# Altium footprint library PCBLibSynthe.PcbLib: 38 footprints (part 2 of 3)
Each footprint in its own frame and in the unit in brackets; x right, y up, seen from the top. Pads: shape width x height; smd on the part's side, far side on the other; paste and mask are expansions set on the pad; w line width, h text height; cw(c..) or ccw(c..) is an arc to the next point about the centre after c.
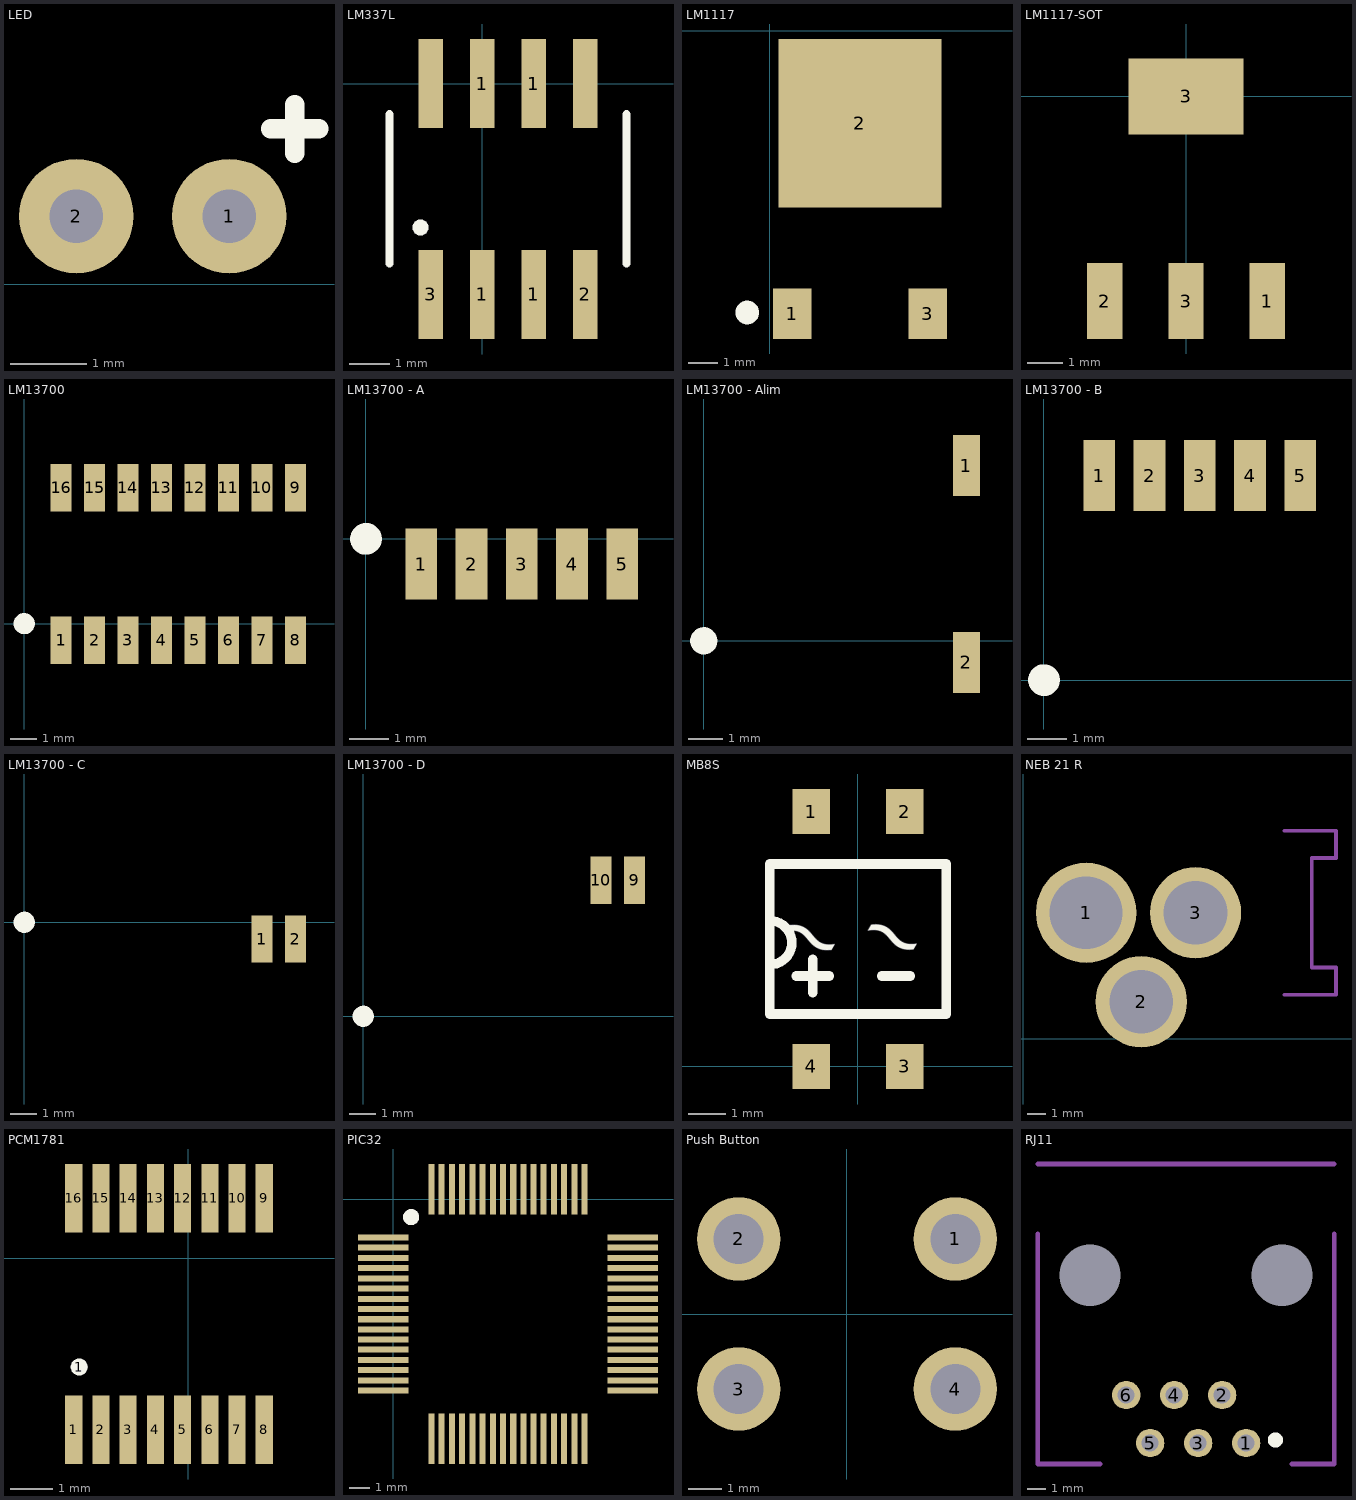
[diagram p1: the footprints below, top view; thin cyan lines are the x and y axes]

## LED [mm]
pads (2):
  round 1.5 hole 0.7: 1(3.27,0.889) 2(1.27,0.889)
Top Overlay:
  lines w0.254: 3.81,2.032 4.445,2.032 4.127,2.032 4.127,1.714 4.127,2.349

## LM337L [mm]
pads (9):
  rect 0.6x2.2 smd mask+0.1: 1(0,-5.2) 1(0,0) 1(1.27,-5.2) 1(1.27,0) 2(2.54,-5.2) 3(-1.27,-5.2) ""(-1.27,0) ""(2.54,0)
  round 0.4 on Top Overlay: ""(-1.524,-3.549)
Top Overlay:
  lines w0.2: -2.286,-4.438 -2.286,-0.755 ; 3.556,-4.438 3.556,-0.755

## LM1117 [mm] "Linear regulator"
pads (3):
  rect 1.3x1.7 smd: 1(0.764,-9.57) 3(5.334,-9.57)
  rect 5.5x5.7 smd: 2(3.049,-3.13)
Top Overlay:
  circle w0.4: c-0.762,-9.525 r0.2

## LM1117-SOT [mm]
pads (4):
  rect 1x2.15 smd: 1(2.3,-5.8) 2(-2.3,-5.8) 3(0,-5.8)
  rect 3.25x2.15 smd: 3(0,0)

## LM13700 [mm]
pads (16):
  rect 0.8x1.8 smd: 1(1.397,-0.635) 2(2.667,-0.635) 3(3.937,-0.635) 4(5.207,-0.635) 5(6.477,-0.635) 6(7.747,-0.635) 7(9.017,-0.635) 8(10.287,-0.635) 9(10.287,5.165) 10(9.017,5.165) 11(7.747,5.165) 12(6.477,5.165) 13(5.207,5.165) 14(3.937,5.165) 15(2.667,5.165) 16(1.397,5.165)
Top Overlay:
  circle w0.4: c0,0 r0.2

## LM13700 - A [mm]
pads (5):
  rect 0.8x1.8 smd: 1(1.397,-0.635) 2(2.667,-0.635) 3(3.937,-0.635) 4(5.207,-0.635) 5(6.477,-0.635)
Top Overlay:
  circle w0.4: c0,0 r0.2

## LM13700 - Alim [mm]
pads (2):
  rect 0.8x1.8 smd: 1(7.747,5.165) 2(7.747,-0.635)
Top Overlay:
  circle w0.4: c0,0 r0.2

## LM13700 - B [mm]
pads (5):
  rect 0.8x1.8 smd: 1(1.397,5.165) 2(2.667,5.165) 3(3.937,5.165) 4(5.207,5.165) 5(6.477,5.165)
Top Overlay:
  circle w0.4: c0,0 r0.2

## LM13700 - C [mm]
pads (2):
  rect 0.8x1.8 smd: 1(9.017,-0.635) 2(10.287,-0.635)
Top Overlay:
  circle w0.4: c0,0 r0.2

## LM13700 - D [mm]
pads (2):
  rect 0.8x1.8 smd: 9(10.287,5.165) 10(9.017,5.165)
Top Overlay:
  circle w0.4: c0,0 r0.2

## MB8S [mm]
pads (4):
  rect 1x1.2 smd: 1(-1.25,6.8) 2(1.25,6.8) 3(1.25,0) 4(-1.25,0)
Top Overlay:
  lines w0.254: -2.35,2.716 ccw(c-2.35,3.302) -1.764,3.302 ccw(c-2.35,3.302) -2.35,3.888 ; -1.651,2.413 -0.762,2.413 -1.206,2.413 ; -1.206,1.968 -1.206,2.413 ; -1.206,2.857 -1.206,2.413 ; 0.635,2.413 1.397,2.413 ; -2.35,1.4 -2.35,5.4 0,5.4 2.35,5.4 2.35,1.4 0,1.4 -2.35,1.4
  text "~" at -0.161,3.311 h1.52
  text "~" at -2.35,3.302 h1.52

## NEB 21 R [mm] "Fiche Alimentation"
pads (3):
  round 5.5 hole 4 unplated: 1(3.458,6.911)
  round 5 hole 3.5 unplated: 2(6.477,2.032) 3(9.458,6.911)
Mechanical 1:
  lines w0.2: 14.313,2.411 17.158,2.411 17.158,3.911 ; 14.332,11.411 17.158,11.411 17.158,9.911 ; 17.132,9.911 15.826,9.911 15.826,3.911 17.153,3.911

## PCM1781 [mm] "DAC"
pads (17):
  rect 0.4x1.6 smd mask+0.05: 1(-2.667,-4.003) 2(-2.032,-4.003) 3(-1.397,-4.003) 4(-0.762,-4.003) 5(-0.127,-4.003) 6(0.508,-4.003) 7(1.143,-4.003) 8(1.778,-4.003) 9(1.778,1.397) 10(1.143,1.397) 11(0.508,1.397) 12(-0.127,1.397) 13(-0.762,1.397) 14(-1.397,1.397) 15(-2.032,1.397) 16(-2.667,1.397)
  round 0.4 on Top Overlay: 1(-2.54,-2.54)

## PIC32 [mm] "PIC32MX575F512H"
pads (64):
  rect 2.5x0.3 smd paste+0 mask+0.05: 1(-0.5,-1.905) 2(-0.5,-2.405) 3(-0.5,-2.913) 4(-0.5,-3.413) 5(-0.5,-3.929) 6(-0.5,-4.429) 7(-0.5,-4.945) 8(-0.5,-5.445) 9(-0.5,-5.961) 10(-0.5,-6.461) 11(-0.5,-6.969) 12(-0.5,-7.469) 13(-0.5,-7.985) 14(-0.5,-8.485) 15(-0.5,-9.001) 16(-0.5,-9.501) 33(11.9,-9.501) 34(11.9,-9.001) 35(11.9,-8.485) 36(11.9,-7.985) 37(11.9,-7.469) 38(11.9,-6.969) 39(11.9,-6.461) 40(11.9,-5.961) 41(11.9,-5.445) 42(11.9,-4.945) 43(11.9,-4.429) 44(11.9,-3.929) 45(11.9,-3.413) 46(11.9,-2.913) 47(11.9,-2.405) 48(11.9,-1.905)
  rect 0.3x2.5 smd paste+0 mask+0.05: 17(1.905,-11.9) 18(2.405,-11.9) 19(2.913,-11.9) 20(3.413,-11.9) 21(3.929,-11.9) 22(4.429,-11.9) 23(4.945,-11.9) 24(5.445,-11.9) 25(5.961,-11.9) 26(6.461,-11.9) 27(6.969,-11.9) 28(7.469,-11.9) 29(7.985,-11.9) 30(8.485,-11.9) 31(9.001,-11.9) 32(9.501,-11.9) 49(9.501,0.5) 50(9.001,0.5) 51(8.485,0.5) 52(7.985,0.5) 53(7.469,0.5) 54(6.969,0.5) 55(6.461,0.5) 56(5.961,0.5) 57(5.445,0.5) 58(4.945,0.5) 59(4.429,0.5) 60(3.929,0.5) 61(3.413,0.5) 62(2.913,0.5) 63(2.405,0.5) 64(1.905,0.5)
Top Overlay:
  circle w0.4: c0.889,-0.889 r0.2

## Push Button [mm]
pads (4):
  round 2.5 hole 1.5: 1(3.25,2.25) 2(-3.25,2.25) 3(-3.25,-2.25) 4(3.25,-2.25)

## RJ11 [mm] "RJ11 Socket"
pads (8):
  round 0 hole 3.25 mask+0: 0(6.11,12.159) 0(16.27,12.159)
  round 1.5 hole 0.9: 1(14.375,3.269) 2(13.105,5.809) 3(11.835,3.269) 4(10.565,5.809) 5(9.295,3.269) 6(8.025,5.809)
Top Overlay:
  circle w0.4: c15.923,3.429 r0.2
Mechanical 1:
  lines w0.254: 3.34,14.351 3.34,2.159 6.642,2.159 ; 3.34,18.039 19.04,18.039 ; 16.802,2.159 19.04,2.159 19.04,14.351